# Altium integrated library Analog Devices Data Converters Analog-to-Digital Converters.IntLib: 2400 symbols (part 8 of 338)
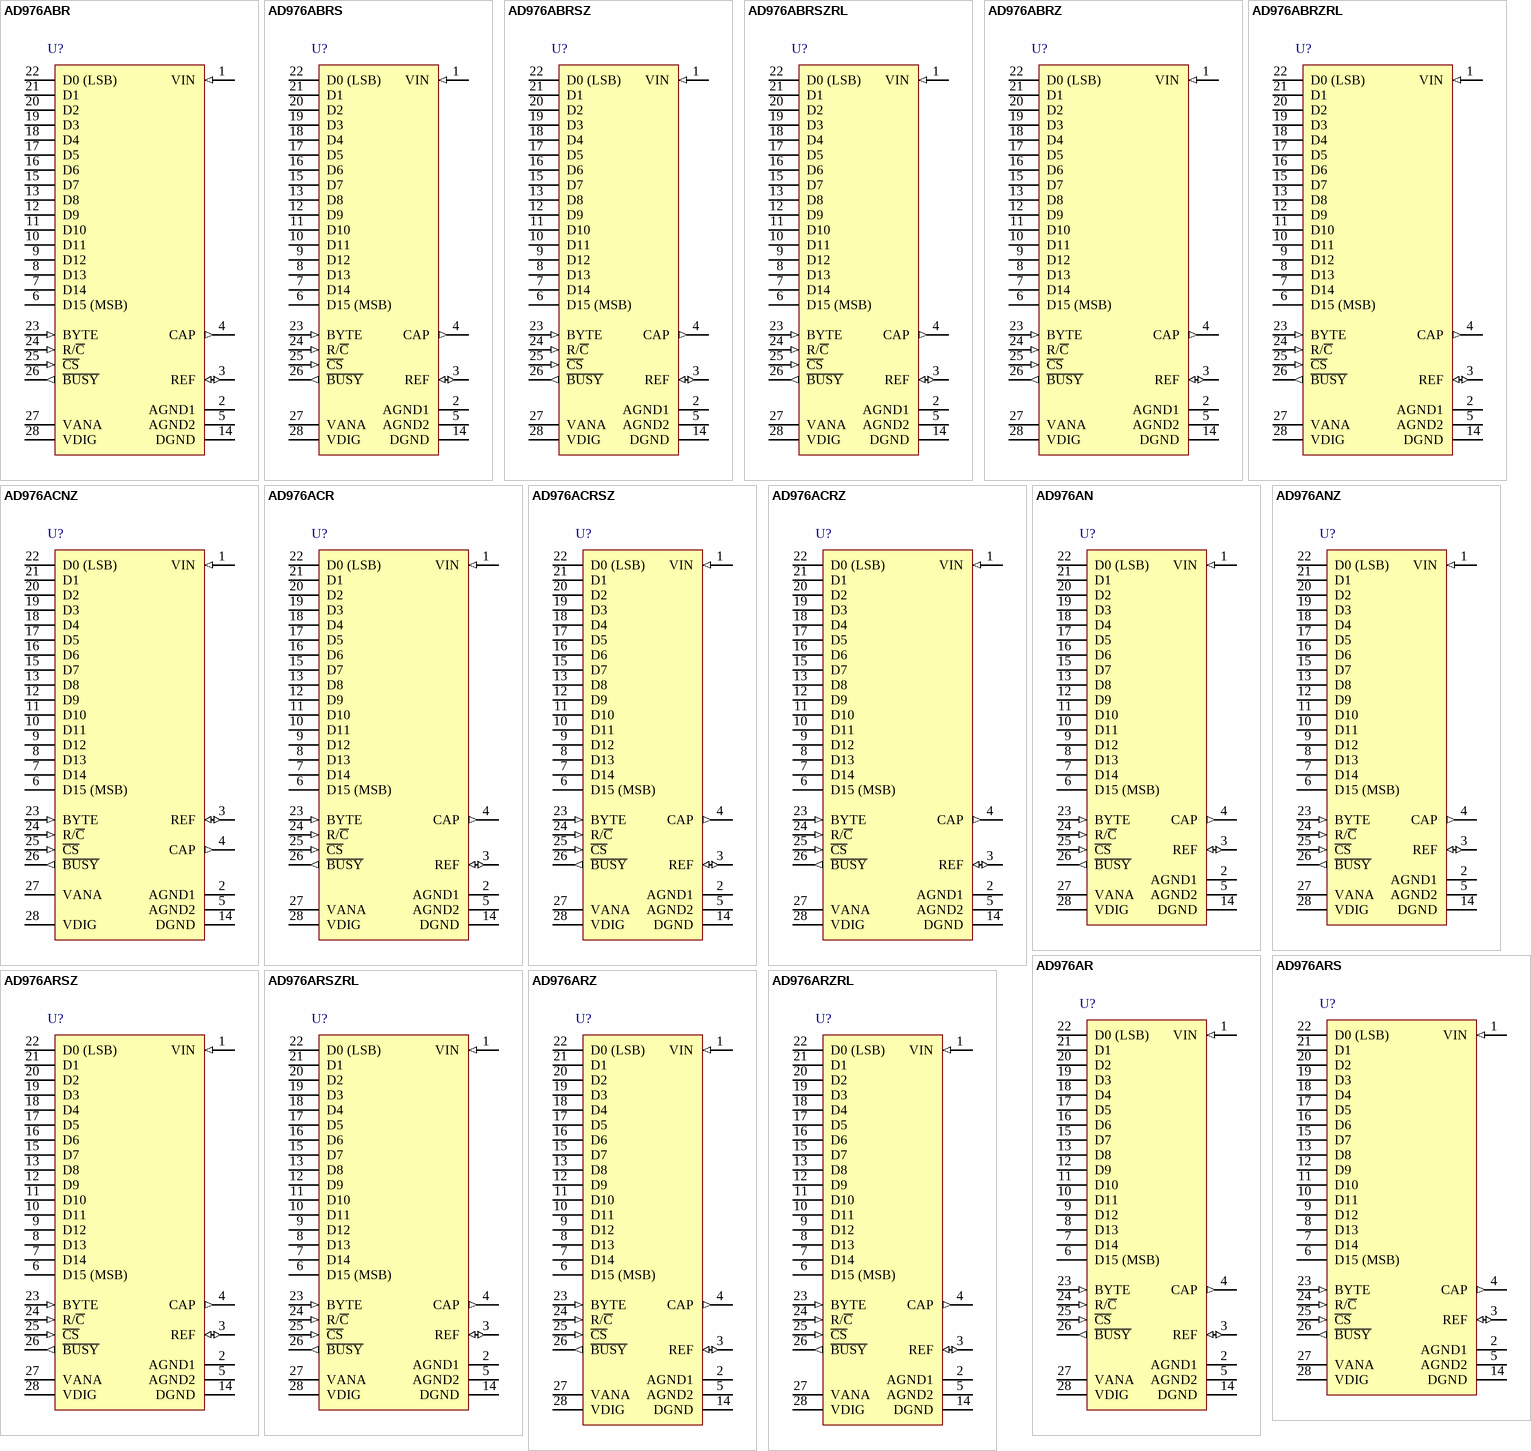
[diagram p259: symbols AD976ABR to AD976ARZRL]

## AD976ACRSZ
designator U?
Single 16-Bit BiCMOS Analog-to-Digital Converter with Parallel Interface, CMOS, 200KSPS, -40 to +85 degC, RS-28, Pb-Free, Tube; Part Number: AD976A; Manufacturer: Analog Devices; Resolution (Bits): 16; Channels: 1; Throughput Rate (SPS): 200K; Interface: Par; DatasheetVersion: Rev.C; PackageVersion: 060106-A; PackageReference: RS-28; PackageDescription: 28-Lead Shrink Small Outline Package [SSOP]; RoHS: Y; Packing: Tube; Mounting Technology: Surface Mount; Code_JEDEC: MO-150-AH; ComponentLink1Description: Manufacturer URL; ComponentLink1URL: http://www.analog.com/en/index.html; ComponentLink2Description: Datasheet; ComponentLink2URL: http://www.analog.com/static/imported-files/data_sheets/AD976_976A.pdf; ComponentLink3Description: Package Specification; ComponentLink3URL: http://www.analog.com/static/imported-files/packages/32122249223724RS_28.pdf; ComponentLink4Description: Product URL; ComponentLink4URL: http://www.analog.com/en/analog-to-digital-converters/ad-converters/ad976a/products/product.html
footprint RS-28_N (SOP, 28-Leads, Body 10.2x5.3mm, Pitch 0.65mm, IPC Medium Density)
footprint RS-28_L (SOP, 28-Leads, Body 10.2x5.3mm, Pitch 0.65mm, IPC High Density)
footprint RS-28_M (SOP, 28-Leads, Body 10.2x5.3mm, Pitch 0.65mm, IPC Low Density)
pins: 1 VIN (in) "Analog Input. Connect a 200 ohm resistor between VIN and the analog signal source. The full-scale input range is +/-10 V.", 2 AGND1 (power) "Analog Ground. Used as the ground reference point for the REF pin.", 3 REF (io) "Reference Input/Output. The internal +2.5 V reference is available at this pin. Alternatively, an external reference can be used to override the internal reference. In either case, connect a 2.2 µf tantalum capacitor between (See Datasheet)", 4 CAP (out) "Reference Buffer Output. Connect a 2.2 µF tantalum capacitor between CAP and AGND2.", 5 AGND2 (power) "Analog Ground.", 6 D15 (MSB) (hiz) "Data Bit 15. Most significant bit of conversion result. High impedance state when C\S\ is HIGH or when R/C\ is LOW.", 7 D14 (hiz) "Data Bits 14. High impedance state when C\S\ is HIGH or when R/C\ is LOW.", 8 D13 (hiz) "Data Bits 13. High impedance state when C\S\ is HIGH or when R/C\ is LOW.", 9 D12 (hiz) "Data Bits 12. High impedance state when C\S\ is HIGH or when R/C\ is LOW.", 10 D11 (hiz) "Data Bits 11. High impedance state when C\S\ is HIGH or when R/C\ is LOW.", 11 D10 (hiz) "Data Bits 10. High impedance state when C\S\ is HIGH or when R/C\ is LOW.", 12 D9 (hiz) "Data Bits 9. High impedance state when C\S\ is HIGH or when R/C\ is LOW.", 13 D8 (hiz) "Data Bits 8. High impedance state when C\S\ is HIGH or when R/C\ is LOW.", 14 DGND (power) "Digital Ground.", 15 D7 (hiz) "Data Bits 7. High impedance state when C\S\ is HIGH or when R/C\ is LOW.", 16 D6 (hiz) "Data Bits 6. High impedance state when C\S\ is HIGH or when R/C\ is LOW.", 17 D5 (hiz) "Data Bits 5. High impedance state when C\S\ is HIGH or when R/C\ is LOW.", 18 D4 (hiz) "Data Bits 4. High impedance state when C\S\ is HIGH or when R/C\ is LOW.", 19 D3 (hiz) "Data Bits 3. High impedance state when C\S\ is HIGH or when R/C\ is LOW.", 20 D2 (hiz) "Data Bits 2. High impedance state when C\S\ is HIGH or when R/C\ is LOW.", 21 D1 (hiz) "Data Bits 1. High impedance state when C\S\ is HIGH or when R/C\ is LOW.", 22 D0 (LSB) (hiz) "Data Bit 0. Least significant bit of conversion result. High impedance state when C\S\ is HIGH or when R/C\ is LOW.", 23 BYTE (in) "Byte Select. With BYTE LOW, data will be output as indicated above; Pin 6 (D15) is the MSB, Pin 22 (D0) is the LSB. With BYTE HIGH, the top and bottom 8 bits of data will be switched; D15-D8 are output on Pins 15-22 and (See Datasheet)", 24 R/~{C} (in) "Read/Convert Input. With C\S\ LOW, a falling edge on R/C\ puts the internal sample/hold into the hold state and starts a conversion; a rising edge enables the output data bits.", 25 ~{CS} (in) "Chip Select Input. Internally OR’d with R/C\. With R/C\ LOW, a falling edge on C\S\ will initiate a conversion. With R/C\ HIGH, a falling edge on C\S\ will enable the output data bits. When C\S\ is HIGH, the output data bits (See Datasheet)", 26 ~{BUSY} (out) "Busy Output. Goes LOW when a conversion is started and remains LOW until the conversion is completed and the data is latched into the output register. With C\S\ tied LOW and R/C\ HIGH, output data will be valid when B\U\S\Y\ (See Datasheet)", 27 VANA (power) "Analog Power Supply. Nominally +5 V.", 28 VDIG (power) "Digital Power Supply. Nominally +5 V."

## AD976ACRZ
designator U?
Single 16-Bit BiCMOS Analog-to-Digital Converter with Parallel Interface, CMOS, 200KSPS, 0 to +70 degC, RW-28, Pb-Free, Tube; Part Number: AD976A; Manufacturer: Analog Devices; Resolution (Bits): 16; Channels: 1; Throughput Rate (SPS): 200K; Interface: Par; DatasheetVersion: Rev.C; PackageVersion: 060706-A; PackageReference: RW-28; PackageDescription: 28-Lead Standard Small Outline Package [SOIC_W]; RoHS: Y; Packing: Tube; Mounting Technology: Surface Mount; Code_JEDEC: MS-013-AE; ComponentLink1Description: Manufacturer URL; ComponentLink1URL: http://www.analog.com/en/index.html; ComponentLink2Description: Datasheet; ComponentLink2URL: http://www.analog.com/static/imported-files/data_sheets/AD976_976A.pdf; ComponentLink3Description: Package Specification; ComponentLink3URL: http://www.analog.com/static/imported-files/packages/35833120341221RW_28.pdf; ComponentLink4Description: Product URL; ComponentLink4URL: http://www.analog.com/en/analog-to-digital-converters/ad-converters/ad976a/products/product.html
footprint RW-28_N (SOIC, 28-Leads, Body 17.9x7.5mm, Pitch 1.27mm, IPC Medium Density)
footprint RW-28_L (SOIC, 28-Leads, Body 17.9x7.5mm, Pitch 1.27mm, IPC High Density)
footprint RW-28_M (SOIC, 28-Leads, Body 17.9x7.5mm, Pitch 1.27mm, IPC Low Density)
pins: 1 VIN (in) "Analog Input. Connect a 200 ohm resistor between VIN and the analog signal source. The full-scale input range is +/-10 V.", 2 AGND1 (power) "Analog Ground. Used as the ground reference point for the REF pin.", 3 REF (io) "Reference Input/Output. The internal +2.5 V reference is available at this pin. Alternatively, an external reference can be used to override the internal reference. In either case, connect a 2.2 µf tantalum capacitor between (See Datasheet)", 4 CAP (out) "Reference Buffer Output. Connect a 2.2 µF tantalum capacitor between CAP and AGND2.", 5 AGND2 (power) "Analog Ground.", 6 D15 (MSB) (hiz) "Data Bit 15. Most significant bit of conversion result. High impedance state when C\S\ is HIGH or when R/C\ is LOW.", 7 D14 (hiz) "Data Bits 14. High impedance state when C\S\ is HIGH or when R/C\ is LOW.", 8 D13 (hiz) "Data Bits 13. High impedance state when C\S\ is HIGH or when R/C\ is LOW.", 9 D12 (hiz) "Data Bits 12. High impedance state when C\S\ is HIGH or when R/C\ is LOW.", 10 D11 (hiz) "Data Bits 11. High impedance state when C\S\ is HIGH or when R/C\ is LOW.", 11 D10 (hiz) "Data Bits 10. High impedance state when C\S\ is HIGH or when R/C\ is LOW.", 12 D9 (hiz) "Data Bits 9. High impedance state when C\S\ is HIGH or when R/C\ is LOW.", 13 D8 (hiz) "Data Bits 8. High impedance state when C\S\ is HIGH or when R/C\ is LOW.", 14 DGND (power) "Digital Ground.", 15 D7 (hiz) "Data Bits 7. High impedance state when C\S\ is HIGH or when R/C\ is LOW.", 16 D6 (hiz) "Data Bits 6. High impedance state when C\S\ is HIGH or when R/C\ is LOW.", 17 D5 (hiz) "Data Bits 5. High impedance state when C\S\ is HIGH or when R/C\ is LOW.", 18 D4 (hiz) "Data Bits 4. High impedance state when C\S\ is HIGH or when R/C\ is LOW.", 19 D3 (hiz) "Data Bits 3. High impedance state when C\S\ is HIGH or when R/C\ is LOW.", 20 D2 (hiz) "Data Bits 2. High impedance state when C\S\ is HIGH or when R/C\ is LOW.", 21 D1 (hiz) "Data Bits 1. High impedance state when C\S\ is HIGH or when R/C\ is LOW.", 22 D0 (LSB) (hiz) "Data Bit 0. Least significant bit of conversion result. High impedance state when C\S\ is HIGH or when R/C\ is LOW.", 23 BYTE (in) "Byte Select. With BYTE LOW, data will be output as indicated above; Pin 6 (D15) is the MSB, Pin 22 (D0) is the LSB. With BYTE HIGH, the top and bottom 8 bits of data will be switched; D15-D8 are output on Pins 15-22 and (See Datasheet)", 24 R/~{C} (in) "Read/Convert Input. With C\S\ LOW, a falling edge on R/C\ puts the internal sample/hold into the hold state and starts a conversion; a rising edge enables the output data bits.", 25 ~{CS} (in) "Chip Select Input. Internally OR’d with R/C\. With R/C\ LOW, a falling edge on C\S\ will initiate a conversion. With R/C\ HIGH, a falling edge on C\S\ will enable the output data bits. When C\S\ is HIGH, the output data bits (See Datasheet)", 26 ~{BUSY} (out) "Busy Output. Goes LOW when a conversion is started and remains LOW until the conversion is completed and the data is latched into the output register. With C\S\ tied LOW and R/C\ HIGH, output data will be valid when B\U\S\Y\ (See Datasheet)", 27 VANA (power) "Analog Power Supply. Nominally +5 V.", 28 VDIG (power) "Digital Power Supply. Nominally +5 V."